# EAGLE library part NORCOMP_189-009-513R571 (library real_library)
CONN D-SUB RCPT 9POS R/A SLDR
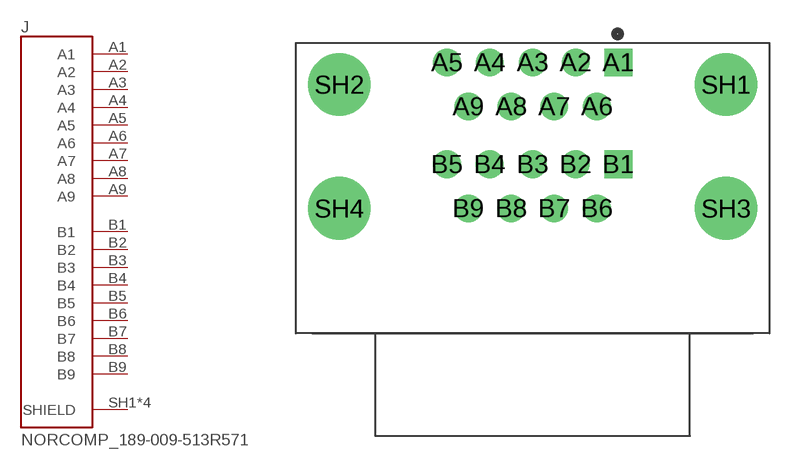
[diagram p5: symbol with the pads of NORCOMP_189-009-513R571; footprint NORCOMP_189-009-513R571]

Designator prefix J

## NORCOMP_189-009-513R571 (AVAILABILITY: Unavailable; DESCRIPTION: Conn D-Subminiature F/F 9/9 POS 2.77mm Solder RA Thru-Hole 18 Terminal 2 Port; MF: NorComp Inc.; MP: 189-009-513R571; PACKAGE: None; PRICE: None)  [NORCOMP_189-009-513R571]
A1  A1  pas
A2  A2  pas
A3  A3  pas
A4  A4  pas
A5  A5  pas
A6  A6  pas
A7  A7  pas
A8  A8  pas
A9  A9  pas
B1  B1  pas
B2  B2  pas
B3  B3  pas
B4  B4  pas
B5  B5  pas
B6  B6  pas
B7  B7  pas
B8  B8  pas
B9  B9  pas
SH1  SHIELD  pas
SH2  SHIELD  pas
SH3  SHIELD  pas
SH4  SHIELD  pas

## Footprint NORCOMP_189-009-513R571 (pad centres in mm)
drill 1.194 square: A1 0,0; B1 0,-6.579
drill 1.194: A2 -2.769,0; A3 -5.537,0; A4 -8.306,0; A5 -11.074,0; A6 -1.384,-2.845; A7 -4.153,-2.845; A8 -6.921,-2.845; A9 -9.69,-2.845; B2 -2.769,-6.579; B3 -5.537,-6.579; B4 -8.306,-6.579; B5 -11.074,-6.579; B6 -1.384,-9.423; B7 -4.153,-9.423; B8 -6.921,-9.423; B9 -9.69,-9.423
drill 3.048: SH1 6.96,-1.422; SH2 -18.034,-1.422; SH3 6.96,-9.423; SH4 -18.034,-9.423